# Altium footprint library Connectors.PcbLib: 13 footprints
Each footprint in its own frame and in the unit in brackets; x right, y up, seen from the top. Pads: shape width x height; smd on the part's side, far side on the other; paste and mask are expansions set on the pad; w line width, h text height; cw(c..) or ccw(c..) is an arc to the next point about the centre after c.
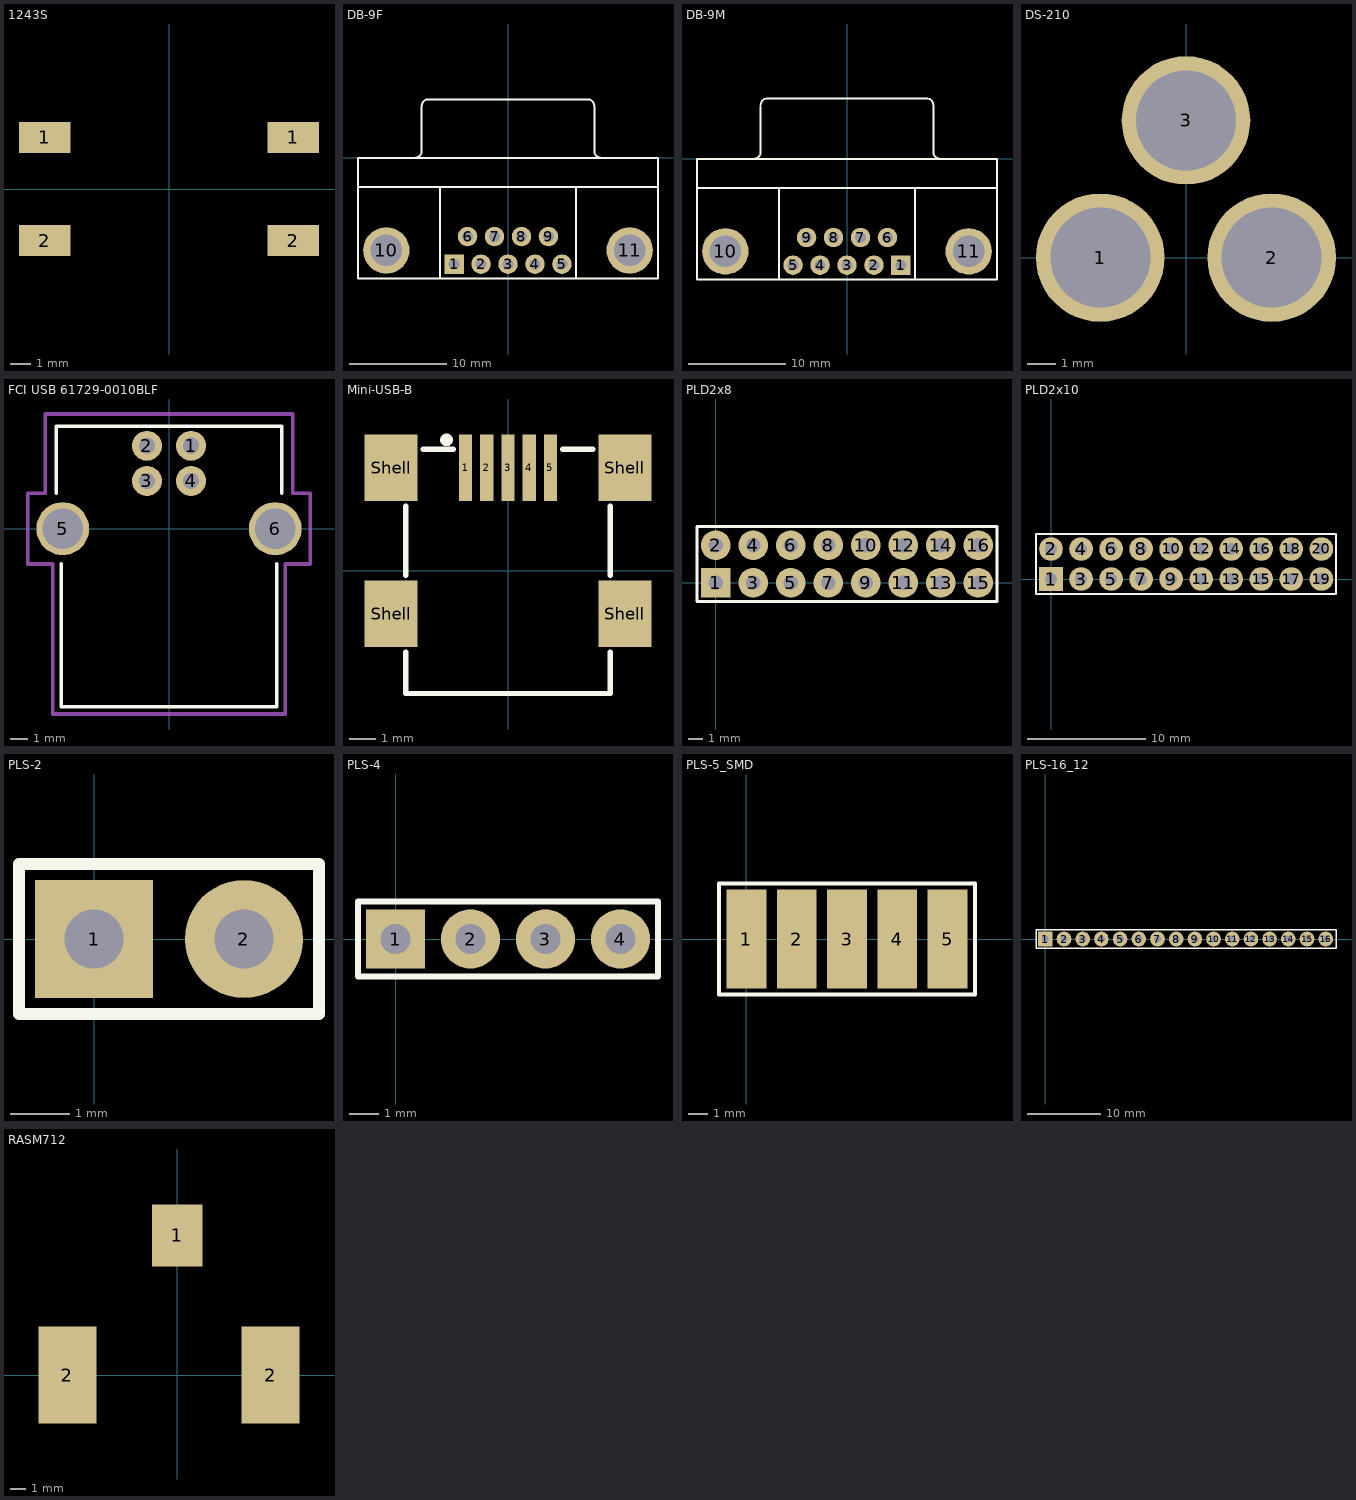
[diagram p0: the footprints below, top view; thin cyan lines are the x and y axes]

## 1243S [mm] "12x12 tact button SMD"
height 4.3
pads (4):
  rect 2.5x1.5 smd: 1(-6,2.5) 1(6,2.5) 2(-6,-2.5) 2(6,-2.5)
3D body "SWT_12x12_SMD.step": height 4, standoff 0, extent -6.587,-6.078 6.863,5.921

## DB-9F [mm] "Connector female; D Subminiature; 9 Position; Right Angle; Pitch 1.385 mm"
height 12.75
pads (11):
  rect 2x2 hole 1.09: 1(-5.54,-10.92)
  round 2 hole 1.09: 2(-2.77,-10.92) 3(0,-10.92) 4(2.77,-10.92) 5(5.54,-10.92) 6(-4.155,-8.08) 7(-1.385,-8.08) 8(1.385,-8.08) 9(4.155,-8.08)
  round 4.76 hole 3.26: 10(-12.495,-9.5) 11(12.495,-9.5)
Top Overlay:
  lines w0.2: -15.4,-3 15.4,-3 ; -9.56,0.005 ccw(c-9.56,0.7) -8.865,0.7 -8.865,5.3 ; -8.86,5.305 cw(c-8.165,5.305) -8.165,6 8.165,6 cw(c8.165,5.305) 8.86,5.305 ; -7,-12.4 -7,-3 ; 7,-12.4 7,-3 ; 8.865,5.3 8.865,0.7 ccw(c9.56,0.7) 9.56,0.005 ; -15.4,-12.4 -15.4,0 15.4,0 15.4,-12.4 -15.4,-12.4
3D body "DB9-F.STEP": height 12.5, standoff -4.5, extent -15.38,-12.275 15.43,6.275

## DB-9M [mm] "Connector male; D Subminiature; 9 Position; Right Angle; Pitch 1.385 mm"
height 12.75
pads (11):
  rect 2x2 hole 1.09: 1(5.54,-10.92)
  round 2 hole 1.09: 2(2.77,-10.92) 3(0,-10.92) 4(-2.77,-10.92) 5(-5.54,-10.92) 6(4.155,-8.08) 7(1.385,-8.08) 8(-1.385,-8.08) 9(-4.155,-8.08)
  round 4.76 hole 3.26: 10(-12.495,-9.5) 11(12.495,-9.5)
Top Overlay:
  lines w0.2: -15.4,-3 15.4,-3 ; -9.56,0.005 ccw(c-9.56,0.7) -8.865,0.7 -8.865,5.3 ; -8.86,5.505 cw(c-8.165,5.505) -8.165,6.2 8.165,6.2 cw(c8.165,5.505) 8.86,5.505 ; -7,-12.4 -7,-3 ; 7,-12.4 7,-3 ; 8.865,5.5 8.865,0.7 ccw(c9.56,0.7) 9.56,0.005 ; -15.4,-12.4 -15.4,0 15.4,0 15.4,-12.4 -15.4,-12.4
3D body "DB9-M.STEP": height 12.5, standoff -3.9, extent -15.25,-12.716 15.25,4.984

## DS-210 [mm]
height 11
pads (3):
  round 4.5 hole 3.5: 1(-3,0) 2(3,0) 3(0,4.8)
3D body "DS-210.STEP": height 11.05, standoff -3.45, extent -4.196,-4.788 10.204,4.612

## FCI USB 61729-0010BLF [mm]
height 11
pads (6):
  round 1.7 hole 0.92: 1(1.25,4.7) 2(-1.25,4.7) 3(-1.25,2.71) 4(1.25,2.71)
  round 3 hole 2.3: 5(-6.02,0) 6(6.02,0)
Top Overlay:
  lines w0.2: -6.4,2 -6.4,5.8 6.4,5.8 6.4,2 ; -6.1,-2 -6.1,-10.1 6.1,-10.1 6.1,-2
Mechanical 15:
  lines w0.2: -8,-2 -6.6,-2 -6.6,-10.5 0,-10.5 6.6,-10.5 6.6,-2 8,-2 8,2 7,2 7,6.5 0,6.5 -7,6.5 -7,2 -8,2 -8,-2
3D body "USB-B.STEP": height 10.9, standoff -3.32, extent -7.493,-10.282 7.457,6.218

## Mini-USB-B [mm] "Mini USB 2.0 Type B SMT Horizontal 5 Contacts"
height 3.9
pads (9):
  rect 0.5x2.5 smd: 1(-1.6,3.875) 2(-0.8,3.875) 3(0,3.875) 4(0.8,3.875) 5(1.6,3.875)
  rect 2x2.5 smd: Shell(-4.4,-1.625) Shell(-4.4,3.875) Shell(4.4,-1.625) Shell(4.4,3.875)
Top Overlay:
  circle w0.25: c-2.314,4.925 r0.114
  lines w0.2: -3.85,-3.075 -3.85,-4.625 3.85,-4.625 3.85,-3.075 ; -3.85,-0.175 -3.85,2.425 ; -3.2,4.575 -2.05,4.575 ; 2.05,4.575 3.2,4.575 ; 3.85,-0.175 3.85,2.425
3D body "65100516121.stp": height 3.92, standoff -0.98, extent -4.8,-4.625 4.8,4.625

## PLD2x8 [mm] "Connector; Header; 8x2 Position"
pads (16):
  rect 2x2 hole 1: 1(0,0)
  round 2 hole 1: 2(0,2.54) 3(2.54,0) 4(2.54,2.54) 5(5.08,0) 6(5.08,2.54) 7(7.62,0) 8(7.62,2.54) 9(10.16,0) 10(10.16,2.54) 11(12.7,0) 12(12.7,2.54) 13(15.24,0) 14(15.24,2.54) 15(17.78,0) 16(17.78,2.54)
Top Overlay:
  lines w0.2: -1.27,-1.27 19.05,-1.27 19.05,3.81 -1.27,3.81 -1.27,-1.27
3D body "PLD-16.STEP": height 8.6, standoff -3, extent -1.27,-1.23 19.05,3.77

## PLD2x10 [mm] "Connector; Header; 10x2 Position"
pads (20):
  rect 2x2 hole 1: 1(0,0)
  round 2 hole 1: 2(0,2.54) 3(2.54,0) 4(2.54,2.54) 5(5.08,0) 6(5.08,2.54) 7(7.62,0) 8(7.62,2.54) 9(10.16,0) 10(10.16,2.54) 11(12.7,0) 12(12.7,2.54) 13(15.24,0) 14(15.24,2.54) 15(17.78,0) 16(17.78,2.54) 17(20.32,0) 18(20.32,2.54) 19(22.86,0) 20(22.86,2.54)
Top Overlay:
  lines w0.2: -1.27,-1.27 -1.27,3.81 24.1,3.81 24.1,-1.27 -1.27,-1.27
3D body "PLD-20.step": height 8.54, standoff -2.96, extent -1.26,-1.24 24.14,3.84

## PLS-2 [mm] "Connector; Header; 2 Position"
pads (2):
  rect 2x2 hole 1: 1(0,0)
  round 2 hole 1: 2(2.54,0)
Top Overlay:
  lines w0.2: -1.27,-1.27 3.81,-1.27 3.81,1.27 -1.27,1.27 -1.27,-1.27
3D body "PLS-2.step": height 8.54, standoff -3, extent -1.27,-1.27 3.81,1.27

## PLS-4 [mm] "Connector; Header; 4 Position"
pads (4):
  rect 2x2 hole 1: 1(0,0)
  round 2 hole 1: 2(2.54,0) 3(5.08,0) 4(7.62,0)
Top Overlay:
  lines w0.2: -1.27,-1.27 -1.27,1.27 8.89,1.27 8.89,-1.27 -1.27,-1.27
3D body "PLS-4.stp": height 9.5, standoff -3.2, extent -1.27,-1.27 8.89,1.27

## PLS-5_SMD [mm] "Connector; Header; 5 Position"
pads (5):
  rect 2x5 smd: 1(0,0) 2(2.54,0) 3(5.08,0) 4(7.62,0) 5(10.16,0)
Top Overlay:
  lines w0.2: -1.397,-2.794 -1.397,2.794 11.557,2.794 11.557,-2.794 -1.397,-2.794
3D body "PLS-5R.step": height 9.51, standoff 0.07, extent -1.27,-2.286 11.43,2.794

## PLS-16_12 [mm] "Connector type 12; Header; 16 Position"
height 14.8
pads (16):
  rect 2x2 hole 1: 1(0,0)
  round 2 hole 1: 2(2.54,0) 3(5.08,0) 4(7.62,0) 5(10.16,0) 6(12.7,0) 7(15.24,0) 8(17.78,0) 9(20.32,0) 10(22.86,0) 11(25.4,0) 12(27.94,0) 13(30.48,0) 14(33.02,0) 15(35.56,0) 16(38.1,0)
Top Overlay:
  lines w0.2: -1.27,-1.27 -1.27,1.27 39.5,1.27 39.5,-1.27 -1.27,-1.27
3D body "pls-16_12.STEP": height 14.81, standoff -2.99, extent -1.27,-1.27 39.37,1.27

## RASM712 [mm] "Power jack 2.5mm SMD mounting"
height 11
pads (3):
  rect 3.3x4.06 smd: 1(0,9.14)
  rect 3.81x6.35 smd: 2(-7.19,0) 2(6.1,0)
3D body "RASM722.step": height 11, standoff 0, extent -8.15,-6.3 7.05,10.7